# Altium schematic symbol library ADS.SchLib: 2 symbols
Pins are listed as number, name and electrical type; pins without a type are passive.

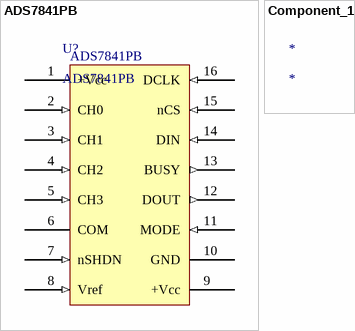
[diagram p0: symbols ADS7841PB to Component_1]

## ADS7841PB
designator U?
Analog to Digital converter; Manufacturer: TEXAS
footprint DIP-16 (DIP, 16-Pin, Row Spacing 7.62 mm, Pitch 2.54 mm)
pins: 1 +Vcc (power), 2 CH0 (in), 3 CH1 (in), 4 CH2 (in), 5 CH3 (in), 6 COM (power), 7 nSHDN (in), 8 Vref (in), 9 +Vcc (power), 10 GND (power), 11 MODE (in), 12 DOUT (out), 13 BUSY (out), 14 DIN (in), 15 nCS (in), 16 DCLK (in)

## Component_1
designator *